# EAGLE library part OLIMEX_CONNECTORS_MICRO_SD/MMC_CP_NEW (library A20-OLinuXino-Lime2_Rev_C)
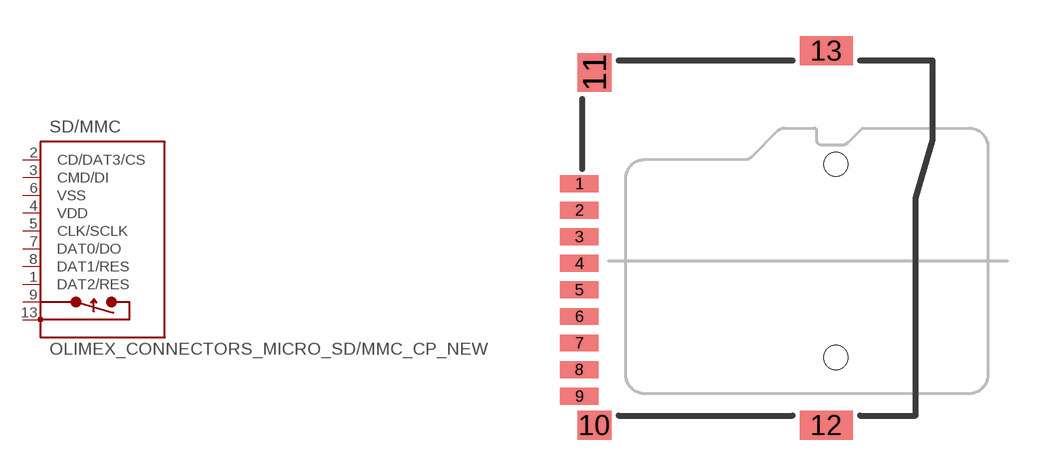
[diagram p1: symbol with the pads of OLIMEX_CONNECTORS_TFC-WPAPR-08; footprint OLIMEX_CONNECTORS_TFC-WPAPR-08]

Designator prefix SD/MMC

## OLIMEX_CONNECTORS_MICRO_SD/MMC_CP_NEWTFC-WPAPR-08  [OLIMEX_CONNECTORS_TFC-WPAPR-08]
1  DAT2/RES
2  CD/DAT3/CS  in
3  CMD/DI  in
4  VDD  pwr
5  CLK/SCLK  in
6  VSS  pwr
7  DAT0/DO  out
8  DAT1/RES
9  CP_E  in
10  PACK1  in
11  PACK2  in
12  PACK3  in
13  PACK4  in

## Footprint OLIMEX_CONNECTORS_TFC-WPAPR-08 (pad centres in mm)
offset x-> -0.950mm offset y-> +7.250mm Rotated counterclockwise 270
smd 1.6 x 0.7: 1 -7.375,2.25; 2 -7.375,1.15; 3 -7.375,0.05; 4 -7.375,-1.05; 5 -7.375,-2.15; 6 -7.375,-3.25; 7 -7.375,-4.35; 8 -7.375,-5.45; 9 -7.375,-6.55
smd 1.4 x 1.2: 10 -6.75,-7.75
smd 1.4 x 1.6: 11 -6.75,6.85
smd 2.2 x 1.2: 12 2.85,-7.75; 13 2.85,7.75
hole 1 at 3.25,-4.95
hole 1 at 3.25,3.05